# Altium footprint library CON_2X2_terminal_header.PcbLib: 1 footprints
Each footprint in its own frame and in the unit in brackets; x right, y up, seen from the top. Pads: shape width x height; smd on the part's side, far side on the other; paste and mask are expansions set on the pad; w line width, h text height; cw(c..) or ccw(c..) is an arc to the next point about the centre after c.
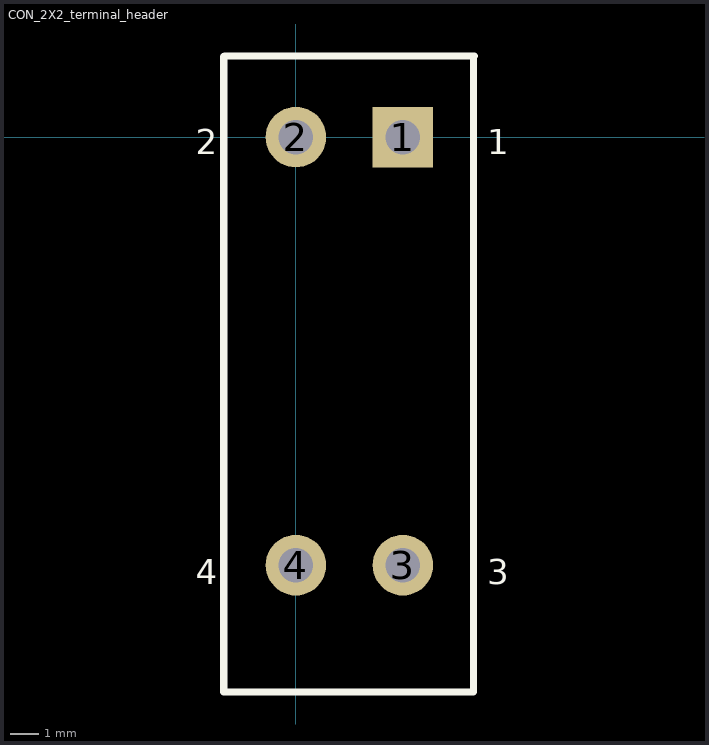
[diagram p0: the footprint, top view; thin cyan lines are the x and y axes]

## CON_2X2_terminal_header [mil]
pads (4):
  rect 85x85 hole 48: 1(150,0)
  round 85 hole 48: 2(0,0) 3(150,-600) 4(0,-600)
Top Overlay:
  lines w10: -101,-778 -101,113 -100,114 250,114 249,113 249,-778 -101,-778
  text "3" at 268,-627 h35
  text "1" at 268,-24 h35
  text "2" at -140,-24 h35
  text "4" at -140,-627 h35
3D body: height 862.2, standoff -133.86, extent -102.36,-779.7 252.36,114